# Altium footprint library AMPHENOL_10061913-XX0.PcbLib: 1 footprints
Each footprint in its own frame and in the unit in brackets; x right, y up, seen from the top. Pads: shape width x height; smd on the part's side, far side on the other; paste and mask are expansions set on the pad; w line width, h text height; cw(c..) or ccw(c..) is an arc to the next point about the centre after c.
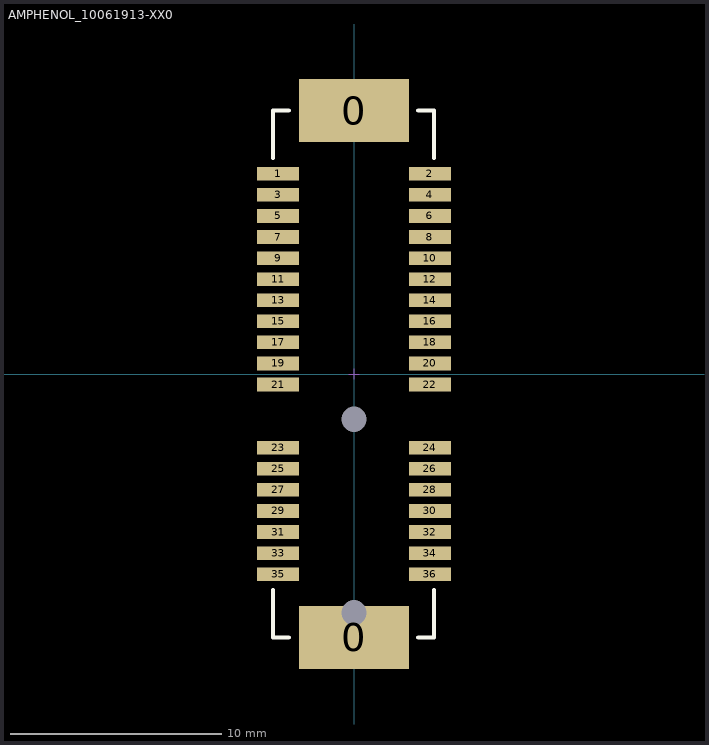
[diagram p0: the footprint, top view; thin cyan lines are the x and y axes]

## AMPHENOL_10061913-XX0 [mm] "36-Pin PCI express connector"
pads (40):
  rect 5.2x3 smd: 0(0,-12.5) 0(0,12.5)
  round 0 hole 1.2 unplated: 0(0,-11.325) 0(0,-2.15)
  rect 2x0.65 smd mask+0.05: 1(-3.6,9.5) 2(3.6,9.5) 3(-3.6,8.5) 4(3.6,8.5) 5(-3.6,7.5) 6(3.6,7.5) 7(-3.6,6.5) 8(3.6,6.5) 9(-3.6,5.5) 10(3.6,5.5) 11(-3.6,4.5) 12(3.6,4.5) 13(-3.6,3.5) 14(3.6,3.5) 15(-3.6,2.5) 16(3.6,2.5) 17(-3.6,1.5) 18(3.6,1.5) 19(-3.6,0.5) 20(3.6,0.5) 21(-3.6,-0.5) 22(3.6,-0.5) 23(-3.6,-3.5) 24(3.6,-3.5) 25(-3.6,-4.5) 26(3.6,-4.5) 27(-3.6,-5.5) 28(3.6,-5.5) 29(-3.6,-6.5) 30(3.6,-6.5) 31(-3.6,-7.5) 32(3.6,-7.5) 33(-3.6,-8.5) 34(3.6,-8.5) 35(-3.6,-9.5) 36(3.6,-9.5)
Top Overlay:
  lines w0.2: -3.85,-10.25 -3.85,-12.5 -3.1,-12.5 ; -3.85,10.25 -3.85,12.5 -3.1,12.5 ; 3.05,-12.5 3.8,-12.5 3.8,-10.25 ; 3.05,12.5 3.8,12.5 3.8,10.25
Mechanical 15:
  lines w0.05: -0.25,0 0.25,0 ; 0,-0.25 0,0.25
3D body "AMPHENOL_10061913-xx0.stp": height 11.09, standoff -0.91, extent -5.1,-13.1 4.1,13.1